# Altium schematic symbol library TP4056_MODULE.SchLib: 1 symbol
Pins are listed as number, name and electrical type; pins without a type are passive.

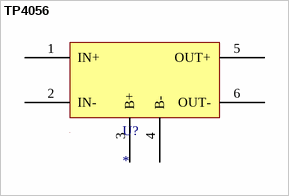
[diagram p0: symbol TP4056]

## TP4056
designator U?
pins: 1 IN+, 2 IN-, 3 B+, 4 B-, 5 OUT+, 6 OUT-